# Altium footprint library LOGIC_LIB.PcbLib: 1 footprints
Each footprint in its own frame and in the unit in brackets; x right, y up, seen from the top. Pads: shape width x height; smd on the part's side, far side on the other; paste and mask are expansions set on the pad; w line width, h text height; cw(c..) or ccw(c..) is an arc to the next point about the centre after c.
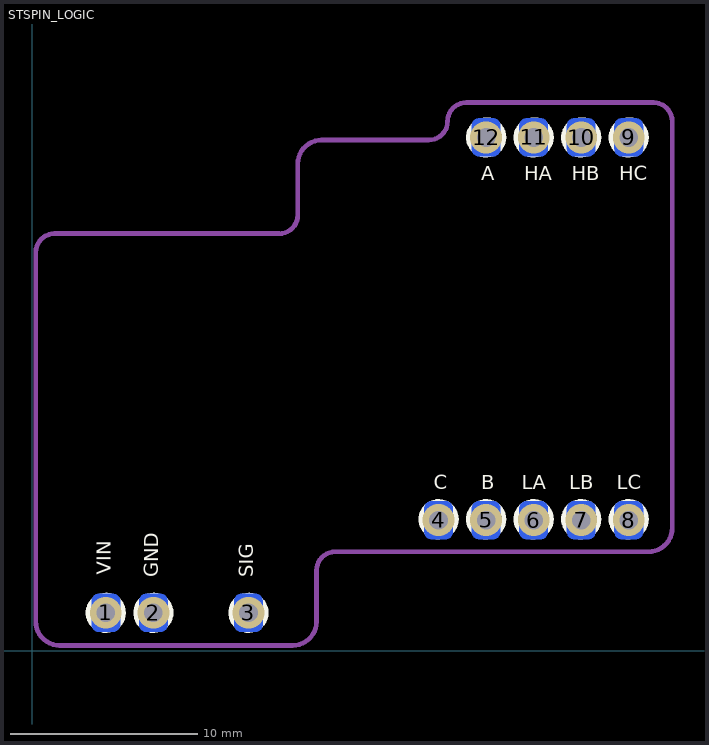
[diagram p0: the footprint, top view; thin cyan lines are the x and y axes]

## STSPIN_LOGIC [mil]
pads (12):
  rrect50% 60x80 smd far side: 1(155,80) 2(255,80) 3(455,80) 4(855,275) 5(955,275) 6(1055,275) 7(1155,275) 8(1255,275) 9(1255,1080) 10(1155,1080) 11(1055,1080) 12(955,1080)
via 955,1080 diameter 66.93 hole 39.37
via 1055,1080 diameter 66.93 hole 39.37
via 1155,1080 diameter 66.93 hole 39.37
via 1255,1080 diameter 66.93 hole 39.37
via 855,275 diameter 66.93 hole 39.37
via 955,275 diameter 66.93 hole 39.37
via 1055,275 diameter 66.93 hole 39.37
via 1155,275 diameter 66.93 hole 39.37
via 1255,275 diameter 66.93 hole 39.37
via 155,80 diameter 66.93 hole 39.37
via 255,80 diameter 66.93 hole 39.37
via 455,80 diameter 66.93 hole 39.37
Top Overlay:
  circle w10: c155,80 r37.42
  circle w10: c255,80 r37.42
  circle w10: c455,80 r37.42
  circle w10: c855,276.85 r37.42
  circle w10: c955,276.85 r37.42
  circle w10: c1055,276.85 r37.42
  circle w10: c1155,276.85 r37.42
  circle w10: c1255,276.85 r37.42
  circle w10: c1255,1080 r37.42
  circle w10: c1155,1080 r37.42
  circle w10: c1055,1080 r37.42
  circle w10: c955,1080 r37.42
  text "VIN" at 165,160 h30
  text "GND" at 265,155 h30
  text "SIG" at 465,155 h30
  text "C" at 845,340 h30
  text "B" at 945,340 h30
  text "LA" at 1030,340 h30
  text "LB" at 1130,340 h30
  text "LC" at 1230,340 h30
  text "A" at 945,990 h30
  text "HA" at 1035,990 h30
  text "HB" at 1135,990 h30
  text "HC" at 1235,990 h30
Mechanical 1:
  lines w10: 913.27,1153.23 ccw(c913.27,1113.86) 873.9,1113.86 cw(c834.53,1113.86) 834.53,1074.49 608.94,1074.49 ccw(c608.94,1024.49) 558.94,1024.49 558.94,917.01 cw(c519.57,917.01) 519.57,877.64 47.13,877.64 ccw(c47.13,838.27) 7.76,838.27 7.76,61.5 ccw(c57.76,61.5) 57.76,11.5 548.31,11.5 ccw(c548.31,61.5) 598.31,61.5 598.31,168.98 cw(c637.68,168.98) 637.68,208.35 1296.34,208.35 ccw(c1296.34,258.35) 1346.34,258.35 1346.34,1113.86 ccw(c1306.97,1113.86) 1306.97,1153.23 913.27,1153.23 ; 913.27,1153.23 913.27,1153.23
3D body "single_esc.step": height 697.05, standoff 180.65, extent 5.71,10 1344.29,1151.73